# EAGLE library part LTC3374 (library Schuyler)
LTC3374 8-Channel 1A Buck DC-DC Regulator. http://cds.linear.com/docs/en/datasheet/3374f.pdf
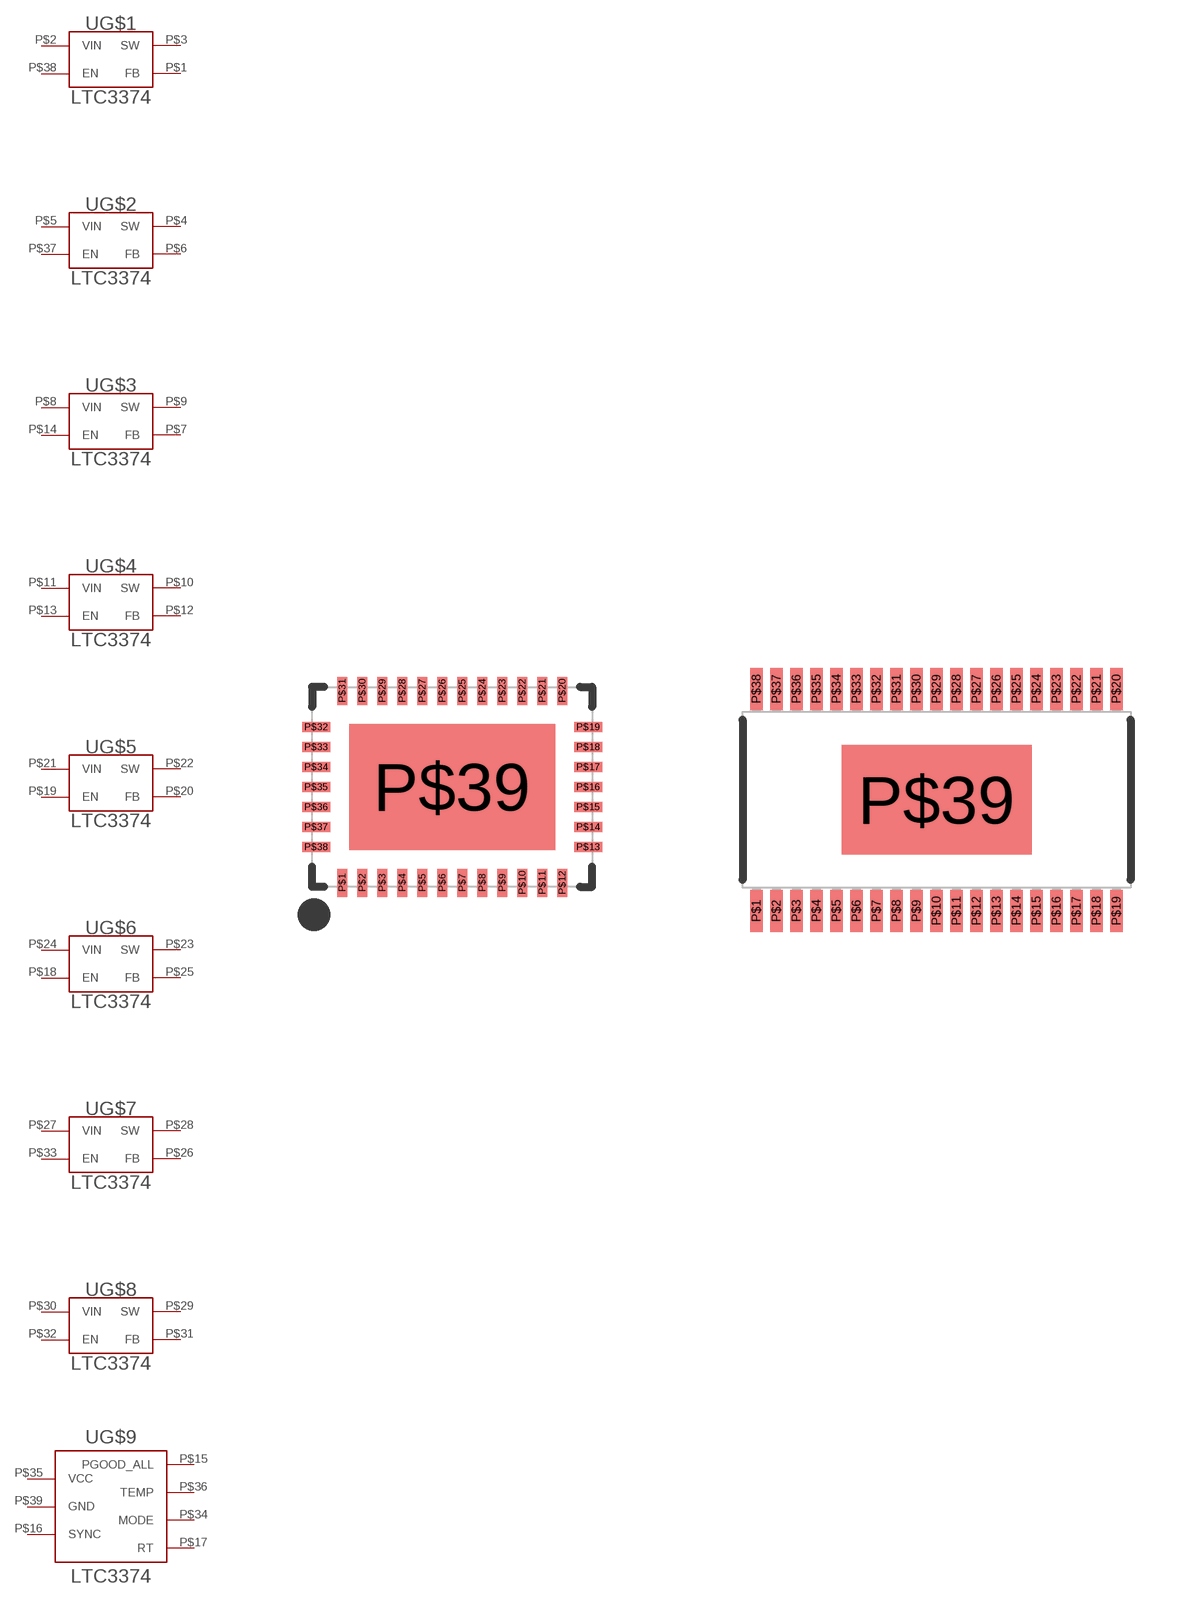
[diagram p19: symbol with the pads of 38-QFN_(5X7); footprints 38-QFN_(5X7), TSSOP38_LT]

Designator prefix -; gates G$1=BUCK_REGULATOR G$2=BUCK_REGULATOR G$3=BUCK_REGULATOR G$4=BUCK_REGULATOR G$5=BUCK_REGULATOR G$6=BUCK_REGULATOR G$7=BUCK_REGULATOR G$8=BUCK_REGULATOR G$9=LTC3374_OTHERPINS

## LTC3374QFN (MANPARTNUMBER: LTC3374EUHF#PBF; MANUFACTURER: Linear Technology; PARTNUMBER: LTC3374EUHF#PBF-ND; SUPPLIER: DIGIKEY; VERIFIED: FALSE)  [38-QFN_(5X7)]
P$1  G$1:FB  in
P$2  G$1:VIN  pwr
P$3  G$1:SW
P$4  G$2:SW
P$5  G$2:VIN  pwr
P$6  G$2:FB  in
P$7  G$3:FB  in
P$8  G$3:VIN  pwr
P$9  G$3:SW
P$10  G$4:SW
P$11  G$4:VIN  pwr
P$12  G$4:FB  in
P$13  G$4:EN  in
P$14  G$3:EN  in
P$15  G$9:PGOOD_ALL  out
P$16  G$9:SYNC  in
P$17  G$9:RT
P$18  G$6:EN  in
P$19  G$5:EN  in
P$20  G$5:FB  in
P$21  G$5:VIN  pwr
P$22  G$5:SW
P$23  G$6:SW
P$24  G$6:VIN  pwr
P$25  G$6:FB  in
P$26  G$7:FB  in
P$27  G$7:VIN  pwr
P$28  G$7:SW
P$29  G$8:SW
P$30  G$8:VIN  pwr
P$31  G$8:FB  in
P$32  G$8:EN  in
P$33  G$7:EN  in
P$34  G$9:MODE  in
P$35  G$9:VCC  pwr
P$36  G$9:TEMP  out
P$37  G$2:EN  in
P$38  G$1:EN  in
P$39  G$9:GND  pwr

## LTC3374TSSOP (MANUFACTURER: Linear Technology; MANUFACTURERNUMBER: LTC3374EFE#PBF; PARTNUMBER: LTC3374EFE#PBF-ND; SUPPLIER: DIGIKEY)  [TSSOP38_LT]
P$1  G$9:TEMP  out
P$2  G$2:EN  in
P$3  G$1:EN  in
P$4  G$1:FB  in
P$5  G$1:VIN  pwr
P$6  G$1:SW
P$7  G$2:SW
P$8  G$2:VIN  pwr
P$9  G$2:FB  in
P$10  G$3:FB  in
P$11  G$3:VIN  pwr
P$12  G$3:SW
P$13  G$4:SW
P$14  G$4:VIN  pwr
P$15  G$4:FB  in
P$16  G$4:EN  in
P$17  G$3:EN  in
P$18  G$9:PGOOD_ALL  out
P$19  G$9:SYNC  in
P$20  G$9:RT
P$21  G$6:EN  in
P$22  G$5:EN  in
P$23  G$5:FB  in
P$24  G$5:VIN  pwr
P$25  G$5:SW
P$26  G$6:SW
P$27  G$6:VIN  pwr
P$28  G$6:FB  in
P$29  G$7:FB  in
P$30  G$7:VIN  pwr
P$31  G$7:SW
P$32  G$8:SW
P$33  G$8:VIN  pwr
P$34  G$8:FB  in
P$35  G$8:EN  in
P$36  G$7:EN  in
P$37  G$9:MODE  in
P$38  G$9:VCC  pwr
P$39  G$9:GND  pwr

## Footprint 38-QFN_(5X7) (pad centres in mm)
38 pin with ground pad QFN package. 5x7mm. Layout from http://cds.linear.com/docs/en/datasheet/3374f.pdf
smd 0.25 x 0.7: P$1 -2.75,-2.4; P$2 -2.25,-2.4; P$3 -1.75,-2.4; P$4 -1.25,-2.4; P$5 -0.75,-2.4; P$6 -0.25,-2.4; P$7 0.25,-2.4; P$8 0.75,-2.4; P$9 1.25,-2.4; P$10 1.75,-2.4; P$11 2.25,-2.4; P$12 2.75,-2.4; P$20 2.75,2.4; P$21 2.25,2.4; P$22 1.75,2.4; P$23 1.25,2.4; P$24 0.75,2.4; P$25 0.25,2.4; P$26 -0.25,2.4; P$27 -0.75,2.4; P$28 -1.25,2.4; P$29 -1.75,2.4; P$30 -2.25,2.4; P$31 -2.75,2.4
smd 0.7 x 0.25: P$13 3.4,-1.5; P$14 3.4,-1; P$15 3.4,-0.5; P$16 3.4,0; P$17 3.4,0.5; P$18 3.4,1; P$19 3.4,1.5; P$32 -3.4,1.5; P$33 -3.4,1; P$34 -3.4,0.5; P$35 -3.4,0; P$36 -3.4,-0.5; P$37 -3.4,-1; P$38 -3.4,-1.5
smd 5.15 x 3.15: P$39 0,0

## Footprint TSSOP38_LT (pad centres in mm)
38 pin TSSOP with ground pad from Linear Technologies. http://cds.linear.com/docs/en/datasheet/3374f.pdf
smd 0.315 x 1.05: P$1 -4.5,-2.775; P$2 -4,-2.775; P$3 -3.5,-2.775; P$4 -3,-2.775; P$5 -2.5,-2.775; P$6 -2,-2.775; P$7 -1.5,-2.775; P$8 -1,-2.775; P$9 -0.5,-2.775; P$10 0,-2.775; P$11 0.5,-2.775; P$12 1,-2.775; P$13 1.5,-2.775; P$14 2,-2.775; P$15 2.5,-2.775; P$16 3,-2.775; P$17 3.5,-2.775; P$18 4,-2.775; P$19 4.5,-2.775; P$20 4.5,2.775; P$21 4,2.775; P$22 3.5,2.775; P$23 3,2.775; P$24 2.5,2.775; P$25 2,2.775; P$26 1.5,2.775; P$27 1,2.775; P$28 0.5,2.775; P$29 0,2.775; P$30 -0.5,2.775; P$31 -1,2.775; P$32 -1.5,2.775; P$33 -2,2.775; P$34 -2.5,2.775; P$35 -3,2.775; P$36 -3.5,2.775; P$37 -4,2.775; P$38 -4.5,2.775
smd 4.75 x 2.74: P$39 0,0